# EAGLE library part CD4069UBE (library integrated circuits)
Hex Inverting Buffer
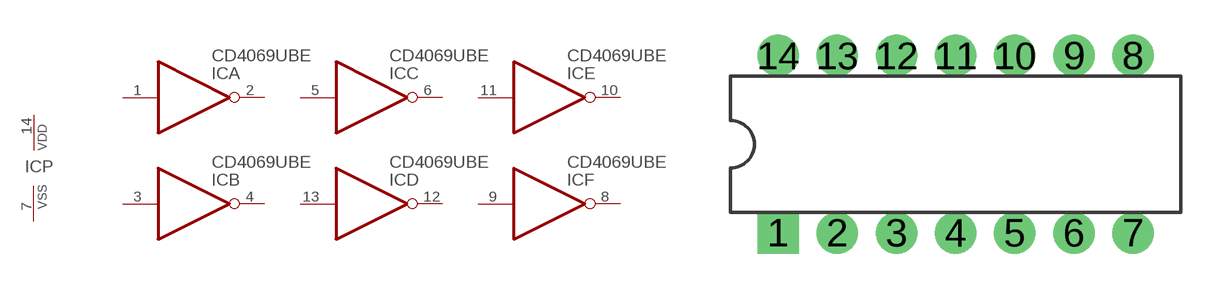
[diagram p23: symbol with the pads of DIL14; footprint DIL14]

Designator prefix IC; gates A=4049 B=4049 C=4049 D=4049 E=4049 F=4049 P=PWRN

## CD4069UBE  [DIL14]
1  A:I  in
2  A:O  out
3  B:I  in
4  B:O  out
5  C:I  in
6  C:O  out
7  P:VSS  pwr
8  F:O  out
9  F:I  in
10  E:O  out
11  E:I  in
12  D:O  out
13  D:I  in
14  P:VDD  pwr

## Footprint DIL14 (pad centres in mm)
Dual In Line Package
drill 1.016 pad 1.778 square: 1 -7.62,-3.81
drill 1.016 pad 1.778: 2 -5.08,-3.81; 3 -2.54,-3.81; 4 0,-3.81; 5 2.54,-3.81; 6 5.08,-3.81; 7 7.62,-3.81; 8 7.62,3.81; 9 5.08,3.81; 10 2.54,3.81; 11 0,3.81; 12 -2.54,3.81; 13 -5.08,3.81; 14 -7.62,3.81